# EAGLE library part SRAM-IS66WV51216DB (library Pygmy)
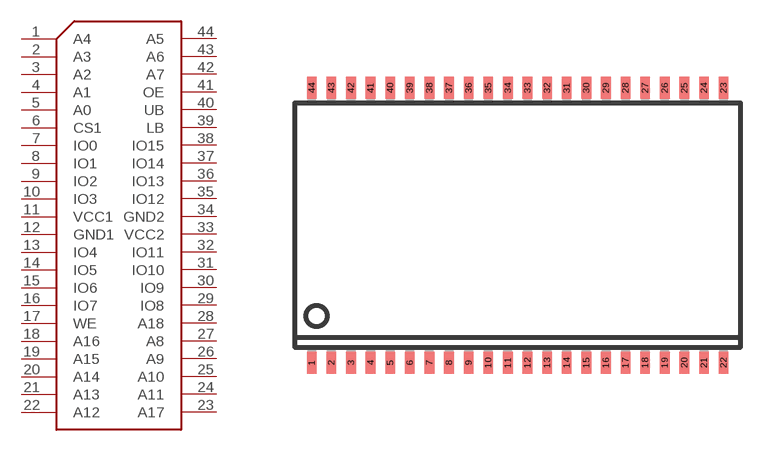
[diagram p61: symbol with the pads of TSOP44-II; footprint TSOP44-II]

Designator prefix -

## SRAM-IS66WV51216DB  [TSOP44-II]
1  A4
2  A3
3  A2
4  A1
5  A0
6  CS1
7  IO0
8  IO1
9  IO2
10  IO3
11  VCC1
12  GND1
13  IO4
14  IO5
15  IO6
16  IO7
17  WE
18  A16
19  A15
20  A14
21  A13
22  A12
23  A17
24  A11
25  A10
26  A9
27  A8
28  A18
29  IO8
30  IO9
31  IO10
32  IO11
33  VCC2
34  GND2
35  IO12
36  IO13
37  IO14
38  IO15
39  LB
40  UB
41  OE
42  A7
43  A6
44  A5

## Footprint TSOP44-II (pad centres in mm)
44 lead Plastic Thin Small Outline Type II Source: http://us.st.com/stonline/products/literature/ds/7995.pdf
smd 0.4 x 0.9: 1 -8.4,-5.6; 2 -7.6,-5.6; 3 -6.8,-5.6; 4 -6,-5.6; 5 -5.2,-5.6; 6 -4.4,-5.6; 7 -3.6,-5.6; 8 -2.8,-5.6; 9 -2,-5.6; 10 -1.2,-5.6; 11 -0.4,-5.6; 12 0.4,-5.6; 13 1.2,-5.6; 14 2,-5.6; 15 2.8,-5.6; 16 3.6,-5.6; 17 4.4,-5.6; 18 5.2,-5.6; 19 6,-5.6; 20 6.8,-5.6; 21 7.6,-5.6; 22 8.4,-5.6; 23 8.4,5.6; 24 7.6,5.6; 25 6.8,5.6; 26 6,5.6; 27 5.2,5.6; 28 4.4,5.6; 29 3.6,5.6; 30 2.8,5.6; 31 2,5.6; 32 1.2,5.6; 33 0.4,5.6; 34 -0.4,5.6; 35 -1.2,5.6; 36 -2,5.6; 37 -2.8,5.6; 38 -3.6,5.6; 39 -4.4,5.6; 40 -5.2,5.6; 41 -6,5.6; 42 -6.8,5.6; 43 -7.6,5.6; 44 -8.4,5.6